# Altium footprint library Battery.PcbLib: 59 footprints (part 3 of 4)
Each footprint in its own frame and in the unit in brackets; x right, y up, seen from the top. Pads: shape width x height; smd on the part's side, far side on the other; paste and mask are expansions set on the pad; w line width, h text height; cw(c..) or ccw(c..) is an arc to the next point about the centre after c.
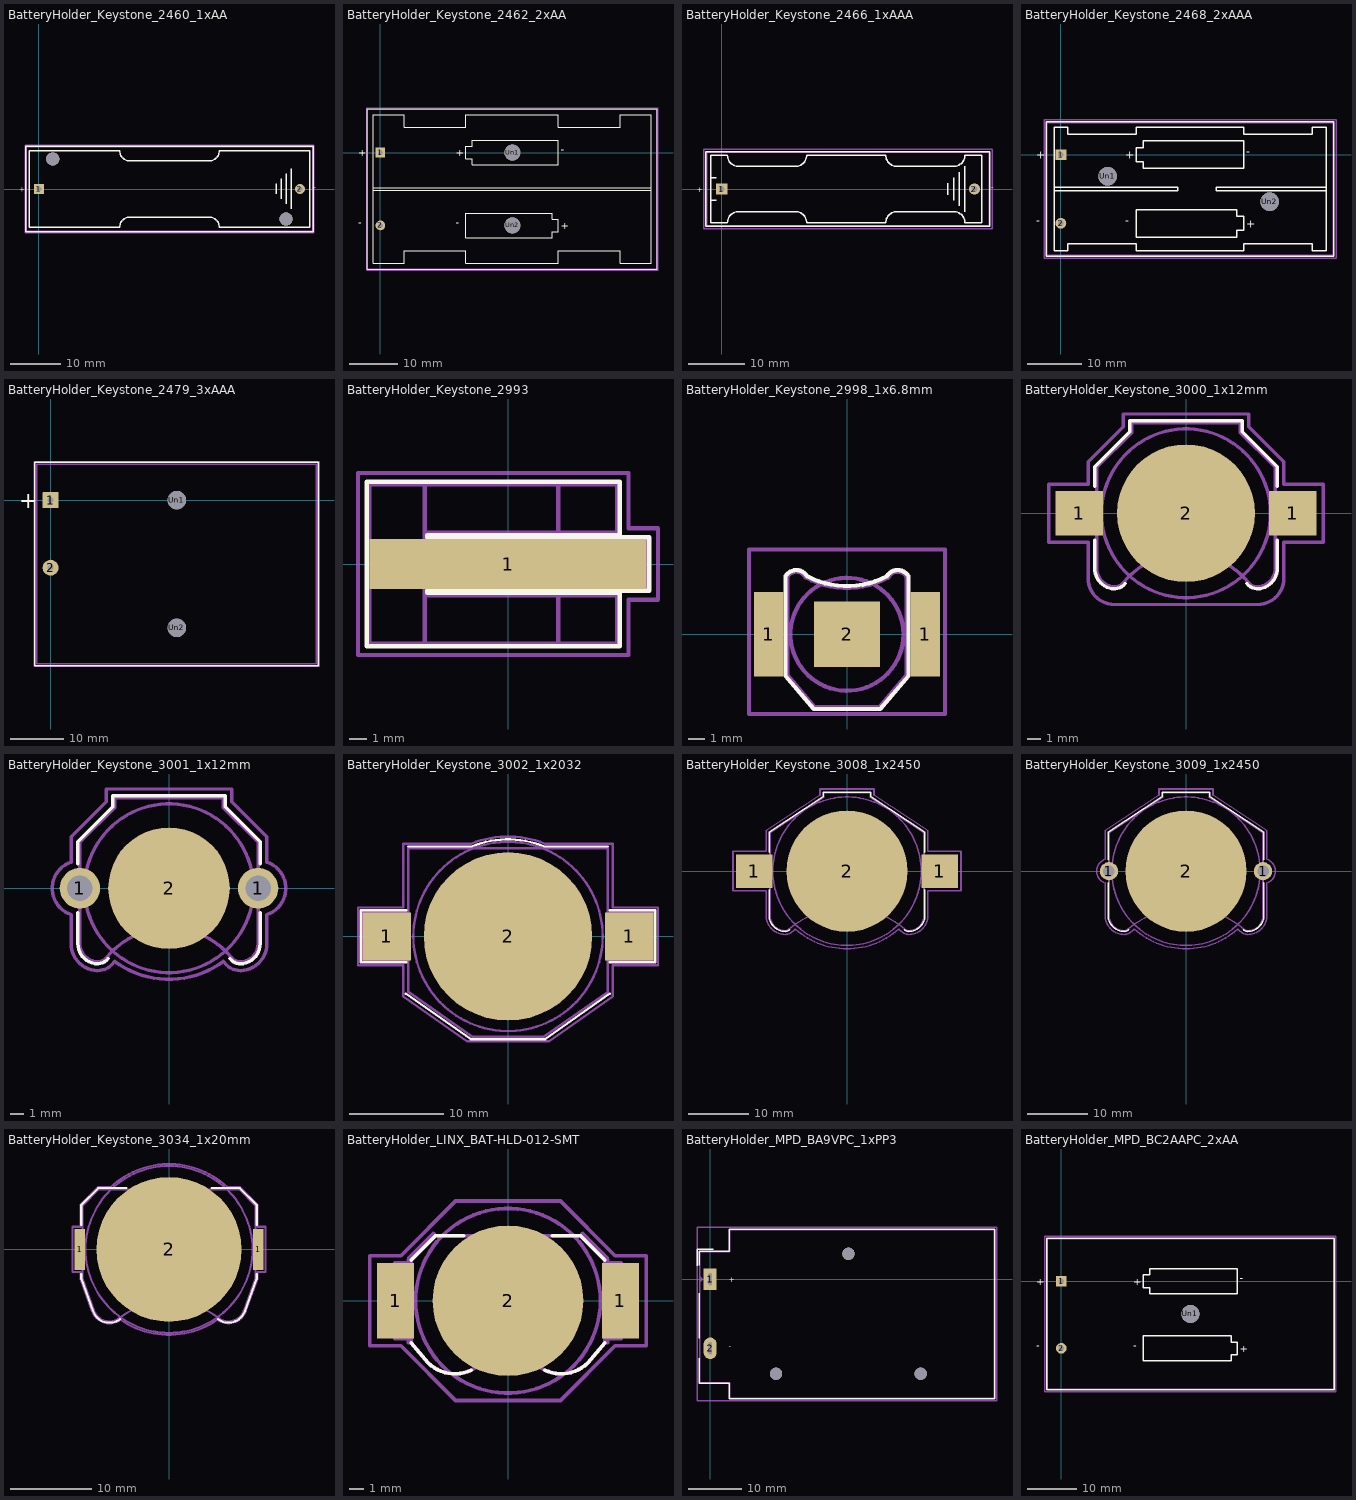
[diagram p2: the footprints below, top view; thin cyan lines are the x and y axes]

## BatteryHolder_Keystone_2460_1xAA [mm]
pads (4):
  rect 2x2 hole 1.02: 1(0,0)
  round 2 hole 1.02: 2(51.99,0)
  round 2.64 hole 2.64: Un1(2.75,5.995) Un2(49.23,-5.995)
F.SilkS:
  lines w0.254: 47.31,-0.94 47.31,1.06 ; 48.31,-1.94 48.31,2.06 ; 49.31,-2.94 49.31,3.06 ; 50.31,-3.94 50.31,4.06 ; -2.62,-8.565 54.62,-8.565 54.62,8.565 -2.62,8.565 -2.62,-8.565 ; -1.9,-7.6 16.1,-7.6 cw(c18.1,-7.6) 18.1,-5.6 33.9,-5.6 cw(c33.9,-7.6) 35.9,-7.6 53.9,-7.6 53.9,7.6 35.9,7.6 cw(c33.9,7.6) 33.9,5.6 18.1,5.6 cw(c18.1,7.6) 16.1,7.6 -1.9,7.6 -1.9,-7.6
  text "-" at 54.792,-0.09 h1
  text "+" at -3.978,-0.518 h1
Top Assembly:
  lines w0.254: -2.5,-8.445 54.5,-8.445 54.5,8.445 -2.5,8.445 -2.5,-8.445
  text "'.Designator'" at -4.037,-0.78 h1
Top Courtyard:
  lines w0.254: -2.75,-8.7 54.75,-8.7 54.75,8.7 -2.75,8.7 -2.75,-8.7
Top Designator:
  text ".Designator" at 18.188,-0.508 h1.52

## BatteryHolder_Keystone_2462_2xAA [mm]
pads (4):
  rect 2x2 hole 1.02: 1(0,0)
  round 2 hole 1.02: 2(0,-14.99)
  round 3.3 hole 3.3: Un1(27.165,0) Un2(27.165,-14.99)
F.SilkS:
  lines w0.254: -1.42,-7.749 55.75,-7.749 ; -1.42,-7.241 55.75,-7.241 ; -2.69,-24.055 57.02,-24.055 57.02,9.065 -2.69,9.065 -2.69,-24.055 ; -1.42,-22.785 4.925,-22.785 4.925,-20.245 17.625,-20.245 17.625,-22.785 36.675,-22.785 36.675,-20.245 49.375,-20.245 49.375,-22.785 55.75,-22.785 55.75,7.795 49.375,7.795 49.375,5.255 36.675,5.255 36.675,7.795 17.625,7.795 17.625,5.255 4.925,5.255 4.925,7.795 -1.42,7.795 -1.42,-22.785 ; 17.625,-17.53 35.405,-17.53 35.405,-16.26 36.675,-16.26 36.675,-13.72 35.405,-13.72 35.405,-12.45 17.625,-12.45 17.625,-17.53 ; 17.625,-1.27 18.895,-1.27 18.895,-2.54 36.675,-2.54 36.675,1.27 36.675,2.54 18.895,2.54 18.895,1.27 17.625,1.27 17.625,-1.27
  text "-" at 15.562,-15.14 h1.5
  text "-" at 37.152,-0.15 h1.5
  text "-" at -4.603,-15.14 h1.5
  text "+" at 37.152,-15.783 h1.5
  text "+" at -4.603,-0.793 h1.5
  text "+" at 15.562,-0.793 h1.5
Top Assembly:
  lines w0.254: -2.59,-23.955 56.92,-23.955 56.92,8.965 -2.59,8.965 -2.59,-23.955
  text "'.Designator'" at -4.047,9.32 h1
Top Courtyard:
  lines w0.254: -2.84,-24.21 57.17,-24.21 57.17,9.22 -2.84,9.22 -2.84,-24.21
Top Designator:
  text ".Designator" at 18.655,-7.418 h1.52

## BatteryHolder_Keystone_2466_1xAAA [mm]
pads (2):
  rect 2x2 hole 1.02: 1(0,0)
  round 2 hole 1.02: 2(44.7,0)
F.SilkS:
  lines w0.254: -2,-2 -1,-2 ; -2,2 -1,2 ; 40,-1 40,1 ; 41,-2 41,2 ; 42,-3 42,3 ; 43,-4 43,4 ; -2.8,-6.6 47.4,-6.6 47.4,6.6 -2.8,6.6 -2.8,-6.6 ; -2,-6 1,-6 cw(c3,-6) 3,-4 13,-4 cw(c13,-6) 15,-6 29,-6 cw(c31,-6) 31,-4 41,-4 cw(c41,-6) 43,-6 46,-6 46,6 43,6 cw(c41,6) 41,4 31,4 cw(c31,6) 29,6 15,6 cw(c13,6) 13,4 3,4 cw(c3,6) 1,6 -2,6 -2,-6
  text "-" at 47.682,-0.15 h1
  text "+" at -4.388,-0.578 h1
Top Assembly:
  lines w0.254: -2.7,-6.5 47.3,-6.5 47.3,6.5 -2.7,6.5 -2.7,0 -2.7,-6.5
  text "'.Designator'" at -4.047,-0.84 h1
Top Courtyard:
  lines w0.254: -3.2,-7 47.8,-7 47.8,7 -3.2,7 -3.2,-7
Top Designator:
  text ".Designator" at 14.457,-0.508 h1.52

## BatteryHolder_Keystone_2468_2xAAA [mm]
pads (4):
  rect 2x2 hole 1.02: 1(0,0)
  round 2 hole 1.02: 2(0,-12.7)
  round 3.45 hole 3.45: Un1(8.64,-4) Un2(38.61,-8.7)
F.SilkS:
  lines w0.254: -2.7,-18.755 50.5,-18.755 ; -2.7,-18.75 -2.7,6.05 ; -2.7,6.055 50.5,6.055 ; -1.27,-6.7 21.59,-6.7 21.59,-6 -1.27,-6 ; 49.07,-6.7 28.75,-6.7 28.75,-6 49.07,-6 ; 50.5,-18.75 50.5,6.05 ; -1.27,-17.78 1.27,-17.78 1.27,-16.51 13.97,-16.51 13.97,-17.78 33.83,-17.78 33.83,-16.51 46.53,-16.51 46.53,-17.78 49.07,-17.78 49.07,5.08 46.53,5.08 46.53,3.81 33.83,3.81 33.83,5.08 13.97,5.08 13.97,3.81 1.27,3.81 1.27,5.08 -1.27,5.08 -1.27,-17.78 ; 13.97,-15.24 32.56,-15.24 32.56,-13.97 33.83,-13.97 33.83,-11.43 32.56,-11.43 32.56,-10.16 13.97,-10.16 13.97,-15.24 ; 13.97,-1.27 15.24,-1.27 15.24,-2.54 33.83,-2.54 33.83,2.54 15.24,2.54 15.24,1.27 13.97,1.27 13.97,-1.27
  text "-" at 34.307,-0.15 h1.5
  text "-" at -4.603,-12.85 h1.5
  text "+" at 11.907,-0.793 h1.5
  text "+" at -4.603,-0.793 h1.5
  text "+" at 34.307,-13.493 h1.5
  text "-" at 11.907,-12.85 h1.5
Top Assembly:
  lines w0.254: -2.59,-18.645 50.39,-18.645 50.39,5.945 -2.59,5.945 -2.59,-18.645
  text "'.Designator'" at 19.853,-6.19 h1
Top Courtyard:
  lines w0.254: -3.09,-19.15 50.89,-19.15 50.89,6.45 -3.09,6.45 -3.09,-19.15
Top Designator:
  text ".Designator" at 15.515,-6.858 h1.52

## BatteryHolder_Keystone_2479_3xAAA [mm]
pads (4):
  rrect8% 3x3 hole 1.1: 1(0,0)
  round 3 hole 1.1: 2(0,-12.7)
  round 3.45 hole 3.45: Un1(23.72,0) Un2(23.72,-24)
F.SilkS:
  lines w0.254: -2.95,-31.11 50.27,-31.11 50.27,7.11 -2.95,7.11 -2.95,-31.11
  text "+" at -5.935,-1.485 h3
Top Assembly:
  lines w0.254: -2.59,-30.75 49.91,-30.75 49.91,6.75 -2.59,6.75 -2.59,-30.75
  text "'.Designator'" at 19.613,-12.84 h1
Top Courtyard:
  lines w0.254: -3.09,-31.25 50.41,-31.25 50.41,7.25 -3.09,7.25 -3.09,-31.25
Top Designator:
  text ".Designator" at 14.608,-12.508 h1.52

## BatteryHolder_Keystone_2993 [mm]
pads (1):
  rect 16x2.9 smd: 1(0,0)
F.SilkS:
  lines w0.254: -8.15,-4.75 6.45,-4.75 6.45,-1.65 -4.65,-1.65 -4.65,-1.55 8.15,-1.55 8.15,1.55 -4.65,1.55 -4.65,1.65 6.45,1.65 6.45,4.75 -8.15,4.75 -8.15,-4.75
Top Assembly:
  lines w0.254: -4.8,-4.6 -4.8,-1.4 8,-1.4 8,1.4 -4.8,1.4 -4.8,4.6 ; -4.8,-1.8 6.3,-1.8 6.3,-4.6 -8,-4.6 -8,4.6 6.3,4.6 6.3,1.8 -4.8,1.8 ; 2.9,-4.6 2.9,-1.8 ; 2.9,1.8 2.9,4.6
  text "'.Designator'" at -4.047,-0.84 h1
Top Courtyard:
  lines w0.254: -8.65,-5.25 6.95,-5.25 6.95,-2.05 8.65,-2.05 8.65,2.05 6.95,2.05 6.95,5.25 -8.65,5.25 -8.65,-5.25
Top Designator:
  text ".Designator" at -7.618,-0.508 h1.52

## BatteryHolder_Keystone_2998_1x6.8mm [mm]
pads (3):
  rect 1.78x5.08 smd: 1(-4.7,0) 1(4.7,0)
  rect 3.96x3.96 smd: 2(0,0)
F.SilkS:
  lines w0.254: -3.706,3.491 cw(c-3.05,3.1) -2.4,3.5 ccw(c0,8) 2.391,3.495 ; -3.7,3.5 -3.7,-2.5 -2,-4.5 2,-4.5 3.7,-2.5 3.7,3.5 ; 2.393,3.494 cw(c3.05,3.1) 3.704,3.5
Top Assembly:
  lines w0.254: -3.608,3.402 cw(c-3.05,3.17) -2.5,3.42 ; -3.6,-2.45 -1.95,-4.4 1.95,-4.4 3.6,-2.45 3.6,3.5 ; -3.6,-2.4 -3.6,3.4 ; -2.5,3.43 ccw(c0,8.03) 2.464,3.411 ; 2.496,3.432 cw(c3.05,3.15) 3.6,3.44
  text "'.Designator'" at -2.778,-4.633 h0.7
Top Courtyard:
  lines w0.254: -5.9,-4.8 5.9,-4.8 5.9,5.1 -5.9,5.1 -5.9,-4.8
Top Designator:
  text ".Designator" at -7.618,-0.403 h1.52
Dwgs.User:
  circle w0.254: c0,0 r3.4

## BatteryHolder_Keystone_3000_1x12mm [mm]
pads (3):
  rect 3.5x3.3 smd: 1(-7.9,0) 1(7.9,0)
  round 10.2 smd: 2(0,0)
F.SilkS:
  lines w0.254: -6.75,-4.1 -6.75,-2 ; -6.75,-4.05 ccw(c-5.25,-4.1) -5.3,-5.6 ; -6.75,2 -6.75,3.45 -4.15,6.05 -4.15,6.85 4.15,6.85 4.15,6.05 6.75,3.45 6.75,2 ; -5.415,-5.584 ccw(c-5.29,-4.6) -4.5,-5.2 ; 4.5,-5.2 ccw(c5.29,-4.6) 5.415,-5.584 ; 5.3,-5.6 ccw(c5.25,-4.1) 6.75,-4.05 ; 6.75,-4.1 6.75,-2
Top Assembly:
  lines w0.254: -6.6,-4.1 -6.6,3.4 -4,6 -4,6.7 4,6.7 4,6 6.6,3.4 6.6,-4.1 ; -6.6,-4.05 ccw(c-5.25,-4.1) -5.3,-5.45 ; -5.378,-5.448 ccw(c-5.29,-4.6) -4.6,-5.1 cw(c0,-8.9) 4.608,-5.11 ; 4.6,-5.1 ccw(c5.29,-4.6) 5.378,-5.448 ; 5.3,-5.45 ccw(c5.25,-4.1) 6.6,-4.05
  text "'.Designator'" at -4.047,-0.84 h1
Top Courtyard:
  lines w0.254: -10.15,-2.15 -7.25,-2.15 -7.25,-4.8 ccw(c-5.29,-4.8) -5.29,-6.76 5.29,-6.76 ccw(c5.29,-4.8) 7.25,-4.8 7.25,-2.15 10.15,-2.15 10.15,2.15 7.25,2.15 7.25,3.8 4.65,6.4 4.65,7.35 -4.65,7.35 -4.65,6.4 -7.25,3.8 -7.25,2.15 -10.15,2.15 -10.15,-2.15
Top Designator:
  text ".Designator" at -7.618,-0.213 h1.52
Dwgs.User:
  circle w0.254: c0,0 r6.25

## BatteryHolder_Keystone_3001_1x12mm [mm]
pads (3):
  round 3 hole 1.9: 1(-6.6,0) 1(6.6,0)
  round 9 smd: 2(0,0)
F.SilkS:
  lines w0.254: -6.75,-1.8 -6.75,-4.1 ccw(c-5.25,-4.101) -5.3,-5.6 ; -6.75,1.8 -6.75,3.45 -4.15,6.05 -4.15,6.85 4.15,6.85 4.15,6.05 6.75,3.45 6.75,1.8 ; -5.415,-5.584 ccw(c-5.29,-4.6) -4.5,-5.2 ; 4.5,-5.2 ccw(c5.306,-4.588) 5.3,-5.6 ccw(c5.25,-4.101) 6.75,-4.1 6.75,-1.8
Top Assembly:
  lines w0.254: -5.378,-5.448 ccw(c-5.29,-4.6) -4.6,-5.1 cw(c0,-8.9) 4.608,-5.11 ; -5.3,-5.45 cw(c-5.25,-4.1) -6.6,-4.05 -6.6,3.4 -4,6 -4,6.7 4,6.7 4,6 6.6,3.4 6.6,-4.1 cw(c5.25,-4.101) 5.3,-5.45 ; 4.6,-5.1 ccw(c5.29,-4.6) 5.378,-5.448
  text "'.Designator'" at -4.047,-0.84 h1
Top Courtyard:
  lines w0.254: -7.25,-4.1 ccw(c-5.25,-4.101) -5.3,-6.1 ccw(c-5.292,-4.598) -4.22,-5.65 cw(c0.129,-9.23) -4.02,-5.42 ccw(c0,0.023) 4.02,-5.42 cw(c-0.129,-9.23) 4.22,-5.65 ccw(c5.292,-4.598) 5.3,-6.1 ccw(c5.25,-4.101) 7.25,-4.1 7.25,-1.95 ccw(c6.599,-0.005) 7.25,1.94 7.25,3.8 4.65,6.4 4.65,7.35 -4.65,7.35 -4.65,6.4 -7.25,3.8 -7.25,1.94 ccw(c-6.599,-0.005) -7.25,-1.95 -7.25,-4.1
Top Designator:
  text ".Designator" at -7.618,-0.205 h1.52
Dwgs.User:
  circle w0.254: c0,0 r6.25

## BatteryHolder_Keystone_3002_1x2032 [mm]
pads (3):
  rect 5.1x5.1 smd: 1(-12.8,0) 1(12.8,0)
  round 17.8 smd: 2(0,0)
F.SilkS:
  lines w0.254: -10.8,-6.05 -3.95,-10.85 3.95,-10.85 10.75,-6.05 ; -10.75,-2.75 -15.55,-2.75 -15.55,2.75 -10.75,2.75 ; -10.55,9.5 -3.85,9.5 ; -3.846,9.501 cw(c0,0) 3.85,9.5 10.55,9.5 ; 10.75,-2.75 15.55,-2.75 15.55,2.75 10.75,2.75
Top Assembly:
  lines w0.254: -15.35,-2.55 -10.55,-2.55 -10.55,-5.85 -3.8,-10.6 3.8,-10.6 10.55,-5.9 10.55,-2.55 15.35,-2.55 15.35,2.55 10.55,2.55 10.55,9.3 -10.55,9.3 -10.55,2.55 -15.35,2.55 -15.35,-2.55
  text "'.Designator'" at -13.197,-10.54 h1
Top Courtyard:
  lines w0.254: -15.85,-3.05 -11.05,-3.05 -11.05,-6.35 -4.3,-11.1 4.3,-11.1 11.05,-6.35 11.05,-3.05 15.85,-3.05 15.85,3.05 11.05,3.05 11.05,9.8 3.9,9.8 ccw(c0,0) -3.9,9.8 -11.05,9.8 -11.05,3.05 -15.85,3.05 -15.85,-3.05
Top Designator:
  text ".Designator" at -7.618,-0.784 h1.52
Dwgs.User:
  circle w0.254: c0,0 r10

## BatteryHolder_Keystone_3008_1x2450 [mm]
pads (3):
  rect 6x5.5 smd: 1(-15.3,0) 1(15.3,0)
  round 20 smd: 2(0,0)
F.SilkS:
  lines w0.254: -12.85,-7.3 -12.85,-3.1 ; -12.85,-7.25 ccw(c-10.15,-7.25) -10.15,-9.95 ccw(c-10.15,-9) -9.478,-9.672 ; -12.85,3.1 -12.85,6.4 -3.95,12.25 -3.95,13.05 3.95,13.05 3.95,12.25 12.85,6.4 12.85,3.1 ; 9.478,-9.672 ccw(c10.15,-9) 10.15,-9.95 ccw(c10.15,-7.25) 12.85,-7.25 ; 12.85,-7.3 12.85,-3.1
Top Assembly:
  lines w0.254: -12.7,-7.3 -12.7,6.35 -3.8,12.2 -3.8,12.9 3.8,12.9 3.8,12.2 12.7,6.35 12.7,-7.3 ; -12.7,-7.25 ccw(c-10.15,-7.25) -10.15,-9.8 ccw(c-10.15,-9) -9.584,-9.566 ; -9.6,-9.58 cw(c0,-21) 9.579,-9.563 ; 9.584,-9.566 ccw(c10.15,-9) 10.15,-9.8 ccw(c10.15,-7.25) 12.7,-7.25
  text "'.Designator'" at -4.047,-0.84 h1
Top Courtyard:
  lines w0.254: -13.35,-7.3 -13.35,-3.25 -18.8,-3.25 -18.8,3.25 -13.35,3.25 -13.35,6.7 -4.45,12.55 -4.45,13.55 4.45,13.55 4.45,12.55 13.35,6.7 13.35,3.25 18.8,3.25 18.8,-3.25 13.35,-3.25 13.35,-7.3 ; -13.35,-7.25 ccw(c-10.15,-7.25) -10.15,-10.45 ccw(c-10.15,-9) -9.125,-10.025 ; -9.15,-10.05 cw(c-0.001,-20.999) -8.524,-9.556 ; -8.515,-9.557 ccw(c0,0) 0,-12.8 ccw(c0,0) 8.515,-9.557 ; 8.524,-9.556 cw(c0.001,-20.999) 9.15,-10.05 ; 9.125,-10.025 ccw(c10.15,-9) 10.15,-10.45 ccw(c10.15,-7.25) 13.35,-7.25
Top Designator:
  text ".Designator" at -7.618,-0.133 h1.52
Dwgs.User:
  circle w0.254: c0,0 r12.25

## BatteryHolder_Keystone_3009_1x2450 [mm]
pads (3):
  round 3 hole 1.9: 1(-12.7,0) 1(12.7,0)
  round 20 smd: 2(0,0)
F.SilkS:
  lines w0.254: -12.85,-7.3 -12.85,-1.9 ; -12.85,-7.25 ccw(c-10.15,-7.25) -10.15,-9.95 ccw(c-10.15,-9) -9.478,-9.672 ; -12.85,1.9 -12.85,6.4 -3.95,12.25 -3.95,13.05 3.95,13.05 3.95,12.25 12.85,6.4 12.85,1.9 ; 9.478,-9.672 ccw(c10.15,-9) 10.15,-9.95 ccw(c10.15,-7.25) 12.85,-7.25 ; 12.85,-7.3 12.85,-1.9
Top Assembly:
  lines w0.254: -12.7,-7.3 -12.7,6.35 -3.8,12.2 -3.8,12.9 3.8,12.9 3.8,12.2 12.7,6.35 12.7,-7.3 ; -12.7,-7.25 ccw(c-10.15,-7.25) -10.15,-9.8 ccw(c-10.15,-9) -9.584,-9.566 ; -9.6,-9.58 cw(c0,-21) 9.579,-9.563 ; 9.584,-9.566 ccw(c10.15,-9) 10.15,-9.8 ccw(c10.15,-7.25) 12.7,-7.25
  text "'.Designator'" at -4.047,-0.84 h1
Top Courtyard:
  lines w0.254: -13.354,1.949 ccw(c-12.7,0) -13.35,-1.95 -13.35,-7.3 ; -13.35,-7.25 ccw(c-10.15,-7.25) -10.15,-10.45 ccw(c-10.15,-9) -9.125,-10.025 ; -13.35,1.95 -13.35,6.7 -4.45,12.55 -4.45,13.55 4.45,13.55 4.45,12.55 13.35,6.7 13.35,1.95 ; -9.15,-10.05 cw(c-0.001,-20.999) -8.524,-9.556 ; -8.515,-9.557 ccw(c0,0) 0,-12.8 ccw(c0,0) 8.515,-9.557 ; 8.524,-9.556 cw(c0.001,-20.999) 9.15,-10.05 ; 9.125,-10.025 ccw(c10.15,-9) 10.15,-10.45 ccw(c10.15,-7.25) 13.35,-7.25 ; 13.35,-7.3 13.35,-1.95 ccw(c12.7,0) 13.354,1.949
Top Designator:
  text ".Designator" at -7.618,-0.133 h1.52
Dwgs.User:
  circle w0.254: c0,0 r12.25

## BatteryHolder_Keystone_3034_1x20mm [mm]
pads (3):
  rect 1.27x5.08 smd: 1(-10.985,0) 1(10.985,0)
  round 17.8 smd: 2(0,0)
F.SilkS:
  lines w0.254: -10.78,-3 -10.78,-3.63 -9.34,-7.58 ccw(c-7.31,-6.85) -6.003,-8.567 ; -10.78,3 -10.78,5.46 -8.7,7.54 -5.2,7.54 ; 5.2,7.54 8.7,7.54 10.78,5.46 10.78,3 ; 6,-8.55 ccw(c7.31,-6.85) 9.325,-7.588 ; 9.34,-7.58 10.78,-3.63 10.78,-3
Top Assembly:
  lines w0.254: -6.096,-8.439 cw(c-7.31,-6.85) -9.19,-7.53 -10.63,-3.6 -10.63,5.4 -8.64,7.39 8.64,7.39 10.63,5.4 10.63,-3.6 9.19,-7.53 ; -6.095,-8.426 cw(c0,-16.36) 6.1,-8.43 ccw(c7.31,-6.85) 9.181,-7.529
  text "'.Designator'" at -4.047,2.06 h1
Top Courtyard:
  lines w0.254: -9.44,-7.62 -10.88,-3.64 -10.88,-2.79 -11.87,-2.79 -11.87,2.79 -10.88,2.79 -10.88,5.5 -8.74,7.64 -7.2,7.64 cw(c0,0) 7.2,7.64 8.74,7.64 10.88,5.5 10.88,2.79 11.87,2.79 11.87,-2.79 10.88,-2.79 10.88,-3.64 9.43,-7.63 ; -9.43,-7.62 ccw(c-7.31,-6.85) -5.957,-8.655 ; -5.96,-8.64 ccw(c0,0) 5.945,-8.65 ; 5.96,-8.64 ccw(c7.31,-6.85) 9.415,-7.621
Top Designator:
  text ".Designator" at -7.618,-0.507 h1.52
Dwgs.User:
  circle w0.254: c0,0 r10.25

## BatteryHolder_LINX_BAT-HLD-012-SMT [mm]
pads (3):
  rect 2.5x5.1 smd: 1(-7.6,0) 1(7.6,0)
  round 10.2 smd: 2(0,0)
F.SilkS:
  lines w0.254: -6.55,-2.85 -5.4,-4.2 ccw(c-3.6,-2.4) -2.504,-4.698 ; -6.55,2.75 -4.9,4.4 -3,4.4 ; 2.502,-4.696 ccw(c3.6,-2.4) 5.4,-4.2 6.55,-2.85 ; 3,4.4 4.9,4.4 6.55,2.75
Top Assembly:
  circle w0.254: c0,0 r6.25
  lines w0.254: -6.75,-2.55 -7.65,-2.55 -7.65,-0.55 -6.75,-0.55 ; -6.75,0.55 -7.65,0.55 -7.65,2.55 -6.75,2.55 ; 6.75,-2.55 7.65,-2.55 7.65,-0.55 6.75,-0.55 ; 6.75,0.55 7.65,0.55 7.65,2.55 6.75,2.55 ; -6.55,-2.85 -5.4,-4.2 ccw(c-3.6,-2.4) -1.8,-4.2 cw(c0,-6) 1.8,-4.2 ccw(c3.6,-2.4) 5.4,-4.2 6.55,-2.85 ; -6.55,-2.85 -6.55,2.75 ; -6.55,-2.85 -6.75,-2.85 -6.75,2.75 -6.55,2.75 ; -6.55,2.75 -4.9,4.4 ; -6.55,2.75 -6.7,2.9 -5.05,4.55 -4.9,4.4 ; -4.9,4.4 4.9,4.4 ; 4.9,4.4 6.55,2.75 ; 4.9,4.4 5.05,4.55 6.7,2.9 6.55,2.75 ; 6.55,-2.85 6.75,-2.85 6.75,2.75 6.55,2.75 ; 6.55,-2.85 6.55,2.75
  text "'.Designator'" at -4.047,-0.84 h1
Top Courtyard:
  lines w0.254: -9.35,-3.05 -7.25,-3.05 -3.55,-6.75 3.55,-6.75 7.25,-3.05 9.35,-3.05 9.35,3.05 7.25,3.05 3.55,6.75 -3.55,6.75 -7.25,3.05 -9.35,3.05 -9.35,-3.05
Top Designator:
  text ".Designator" at -7.618,-0.508 h1.52

## BatteryHolder_MPD_BA9VPC_1xPP3 [mm]
pads (5):
  rect 2.41x4.02 hole 2.27 slot 0.66 at 0 deg: 1(0,0)
  rrect100% 2.41x4.02 hole 2.27 slot 0.66 at 0 deg: 2(0,-12.88)
  round 2.3 hole 2.29: Un1(12.29,-17.62) Un2(25.78,4.73) Un3(39.26,-17.62)
F.SilkS:
  lines w0.254: -2.4,2.55 -2.4,5.55 0.6,5.55 ; -2.06,-14.7 -2.06,-19.38 3.54,-19.38 3.54,-22.28 53.1,-22.28 53.1,9.31 3.54,9.31 3.54,5.21 -2.06,5.21 -2.06,2.65 ; -2.06,-11 -2.06,-2.65
  text "-" at 3.45,-13.03 h1
  text "+" at 3.45,-0.578 h1
Top Assembly:
  lines w0.254: -1.95,-0.45 -1.5,0 -1.95,0.45 ; -1.95,-19.27 3.65,-19.27 3.65,-22.17 52.99,-22.17 52.99,9.2 3.65,9.2 3.65,5.1 -1.95,5.1 -1.95,-19.27
  text "'.Designator'" at 21.703,-7.34 h1
Top Courtyard:
  lines w0.254: -2.45,-22.67 53.49,-22.67 53.49,9.7 -2.45,9.7 -2.45,-22.67
Top Designator:
  text ".Designator" at 17.902,-6.993 h1.52

## BatteryHolder_MPD_BC2AAPC_2xAA [mm]
pads (3):
  rect 2.17x2.17 hole 1.17: 1(0,0)
  round 2.17 hole 1.17: 2(0,-13.59)
  round 3.65 hole 3.65: Un1(26.16,-6.63)
F.SilkS:
  lines w0.254: -2.94,-21.99 55.26,-21.99 55.26,8.71 -2.94,8.71 -2.94,-21.99 ; 16.635,-16.13 34.415,-16.13 34.415,-14.86 35.685,-14.86 35.685,-12.32 34.415,-12.32 34.415,-11.05 16.635,-11.05 16.635,-16.13 ; 16.635,-1.27 17.905,-1.27 17.905,-2.54 35.685,-2.54 35.685,2.54 17.905,2.54 17.905,1.27 16.635,1.27 16.635,-1.27
  text "+" at 36.162,-14.383 h1.5
  text "+" at -5.133,-0.793 h1.5
  text "-" at 14.572,-13.74 h1.5
  text "+" at 14.572,-0.793 h1.5
  text "-" at 36.162,-0.15 h1.5
  text "-" at -5.133,-13.74 h1.5
Top Assembly:
  lines w0.254: -2.84,-21.89 55.16,-21.89 55.16,8.61 -2.84,8.61 -2.84,-21.89
  text "'.Designator'" at 22.113,-7.47 h1
Top Courtyard:
  lines w0.254: -3.34,-22.39 55.66,-22.39 55.66,9.11 -3.34,9.11 -3.34,-22.39
Top Designator:
  text ".Designator" at 17.635,-7.148 h1.52